# EAGLE library part TOBI (library DSDEagleLibrary)
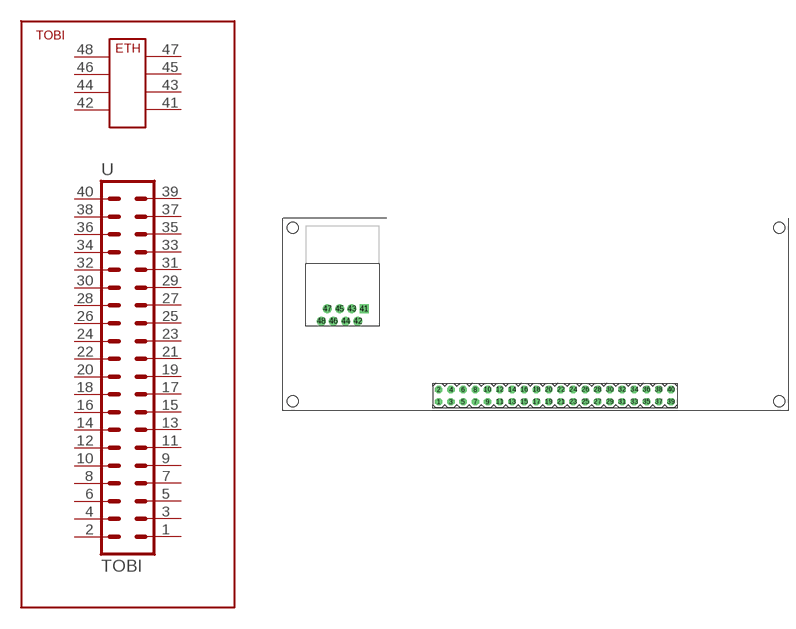
[diagram p2: symbol with the pads of TOBI; footprint TOBI]

Designator prefix -

## TOBI  [TOBI]
1  1  pas
2  2  pas
3  3  pas
4  4  pas
5  5  pas
6  6  pas
7  7  pas
8  8  pas
9  9  pas
10  10  pas
11  11  pas
12  12  pas
13  13  pas
14  14  pas
15  15  pas
16  16  pas
17  17  pas
18  18  pas
19  19  pas
20  20  pas
21  21  pas
22  22  pas
23  23  pas
24  24  pas
25  25  pas
26  26  pas
27  27  pas
28  28  pas
29  29  pas
30  30  pas
31  31  pas
32  32  pas
33  33  pas
34  34  pas
35  35  pas
36  36  pas
37  37  pas
38  38  pas
39  39  pas
40  40  pas
41  41
42  42
43  43
44  44
45  45
46  46
47  47  pas
48  48

## Footprint TOBI (pad centres in mm)
side hole radius: 0.09'' boar dimensions: (4.13'' , 1.57'') hole #1: (0.08'' , 0.08'') hole #2: (0.08'' , 1.50'') hole #3: (4.06'' , 0.08'') hole #4: (4.06'' , 1.50'')
drill 1.016 octagon: 1 32.385,1.905; 2 32.385,4.445; 3 34.925,1.905; 4 34.925,4.445; 5 37.465,1.905; 6 37.465,4.445; 7 40.005,1.905; 8 40.005,4.445; 9 42.545,1.905; 10 42.545,4.445; 11 45.085,1.905; 12 45.085,4.445; 13 47.625,1.905; 14 47.625,4.445; 15 50.165,1.905; 16 50.165,4.445; 17 52.705,1.905; 18 52.705,4.445; 19 55.245,1.905; 20 55.245,4.445; 21 57.785,1.905; 22 57.785,4.445; 23 60.325,1.905; 24 60.325,4.445; 25 62.865,1.905; 26 62.865,4.445; 27 65.405,1.905; 28 65.405,4.445; 29 67.945,1.905; 30 67.945,4.445; 31 70.485,1.905; 32 70.485,4.445; 33 73.025,1.905; 34 73.025,4.445; 35 75.565,1.905; 36 75.565,4.445; 37 78.105,1.905; 38 78.105,4.445; 39 80.645,1.905; 40 80.645,4.445
drill 1 pad 1.88 square: 41 16.891,21.209
drill 1 pad 1.88: 42 15.621,18.669; 43 14.351,21.209; 44 13.081,18.669; 45 11.811,21.209; 46 10.541,18.669; 47 9.271,21.209; 48 8.001,18.669
hole 2.286 at 2.032,38.1
hole 2.286 at 2.032,2.032
hole 2.286 at 103.124,38.1
hole 2.286 at 103.124,2.032